# Altium integrated library TI Data Converters Analog to Digital Converter.IntLib: 2198 symbols (part 91 of 164)
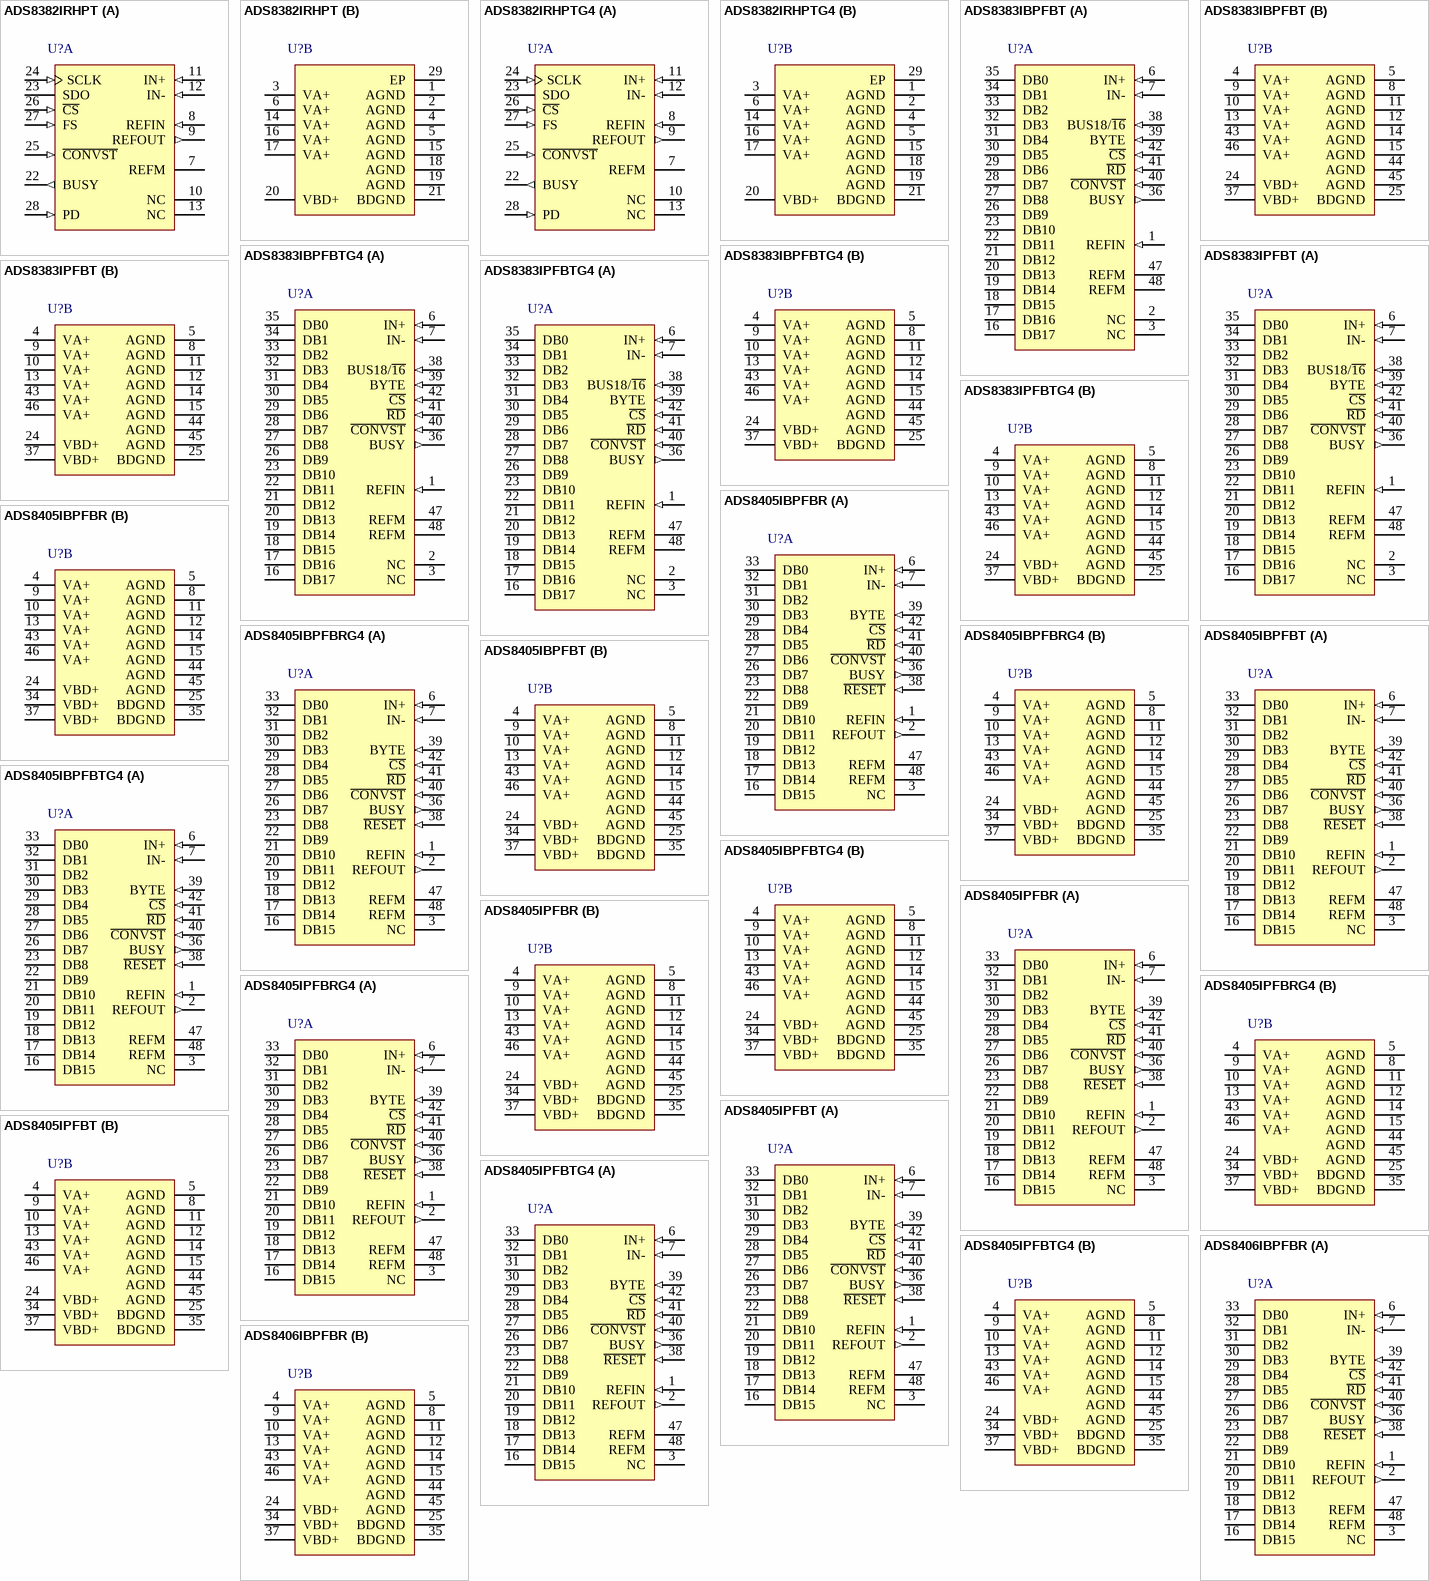
[diagram p216: symbols ADS8382IRHPT to ADS8406IBPFBR]

## ADS8405IBPFBR
designator U?
16-Bit 1.25 MSPS Unipolar Input Micro Power Sampling ADC, -40 to 85 degC, 48-pin QFP (PFB48), Green (RoHS & no Sb/Br); Manufacturer: Texas Instruments; PartNumber: ADS8405IBPFBR; # Input Channels: 1; Analog Voltage AV/DD(Max)(V): 5.25; Analog Voltage AV/DD(Min)(V): 4.75; Architecture: SAR; Digital Supply(Min)(V): 2.7; INL(Max)(+/-LSB): 2; Interface: Parallel CMOS; Resolution(Bits): 16; Sample Rate (max)(SPS): 1.25M; SFDR(dB): 90; SINAD(dB): 85; SNR(dB): 86; SubFamily: Precision ADC (<=10MSPS); DatasheetVersion: SLAS427; PackageVersion: 4073176/B, 10/1996; PackageReference: PFB48; PackageDescription: 48-Pin Plastic Flat Pack, Body 7 x 7 mm, Pitch 0.5 mm; Supplier 1: Digi-Key; Supplier Part Number 1: ADS1213U/1K-ND; Digital Supply(Max)(V): 5.25; Eco-Plan: Green (RoHS & no Sb/Br); Mounting Technology: Surface Mount; Code_JEDEC: MS-026; ComponentLink1Description: Manufacturer URL; ComponentLink1URL: http://www.ti.com/; ComponentLink2Description: Datasheet; ComponentLink2URL: http://www.ti.com/general/docs/lit/getliterature.tsp?genericPartNumber=ADS8405&fileType=pdf; ComponentLink3Description: Package Specification; ComponentLink3URL: http://www.ti.com/lit/ml/mtqf019a/mtqf019a.pdf
footprint TI-PFB48_N (QFP, 48-Leads, Body 7x7mm, Pitch 0.5mm, IPC Medium Density)
footprint TI-PFB48_L (QFP, 48-Leads, Body 7x7mm, Pitch 0.5mm, IPC High Density)
footprint TI-PFB48_M (QFP, 48-Leads, Body 7x7mm, Pitch 0.5mm, IPC Low Density)
part A pins: 1 REFIN (in) "Reference input.", 2 REFOUT (out) "Reference output. Add 1 uF capacitor between the REFOUT pin and REFM pin when internal reference is used.", 3 NC "No connection", 6 IN+ (in) "Noninverting input channel", 7 IN- (in) "Inverting input channel", 16 DB15 (hiz), 17 DB14 (hiz), 18 DB13 (hiz), 19 DB12 (hiz), 20 DB11 (hiz), 21 DB10 (hiz), 22 DB9 (hiz), 23 DB8 (hiz), 26 DB7 (hiz), 27 DB6 (hiz), 28 DB5 (hiz), 29 DB4 (hiz), 30 DB3 (hiz), 31 DB2 (hiz), 32 DB1 (hiz), 33 DB0 (hiz), 36 BUSY (out) "Status output. High when a conversion is in progress.", 38 ~{RESET} (in) "Current conversion is aborted and output latches are cleared (set to zeros) when this pin is asserted low. R\E\S\E\T\ works independantly of C\S\.", 39 BYTE (in) "Byte select input. Used for 8-bit bus reading. 0: No fold back 1: Low byte D[7:0] of the 16 most significant bits is folded back to high byte of the 16 most significant pins DB[15:8].", 40 ~{CONVST} (in) "Convert start. The falling edge of this input ends the acquisition period and starts the hold period.", 41 ~{RD} (in) "Synchronization pulse for the parallel output. When C\S\ is low, this serves as the output enable and puts the previous conversion result on the bus.", 42 ~{CS} (in) "Chip select. The falling edge of this input starts the acquisition period.", 47 REFM (power) "Reference ground.", 48 REFM (power) "Reference ground."
part B pins: 4 VA+ (power) "Analog power supplies, 5-V dc", 5 AGND (power) "Analog ground", 8 AGND (power) "Analog ground", 9 VA+ (power) "Analog power supplies, 5-V dc", 10 VA+ (power) "Analog power supplies, 5-V dc", 11 AGND (power) "Analog ground", 12 AGND (power) "Analog ground", 13 VA+ (power) "Analog power supplies, 5-V dc", 14 AGND (power) "Analog ground", 15 AGND (power) "Analog ground", 24 VBD+ (power) "Digital power supply for bus", 25 BDGND (power) "Digital ground for bus interface digital supply", 34 VBD+ (power) "Digital power supply for bus", 35 BDGND (power) "Digital ground for bus interface digital supply", 37 VBD+ (power) "Digital power supply for bus", 43 VA+ (power) "Analog power supplies, 5-V dc", 44 AGND (power) "Analog ground", 45 AGND (power) "Analog ground", 46 VA+ (power) "Analog power supplies, 5-V dc"

## ADS8405IBPFBRG4
designator U?
16-Bit 1.25 MSPS Unipolar Input Micro Power Sampling ADC, -40 to 85 degC, 48-pin QFP (PFB48), Green (RoHS & no Sb/Br); Manufacturer: Texas Instruments; PartNumber: ADS8405IBPFBRG4; # Input Channels: 1; Analog Voltage AV/DD(Max)(V): 5.25; Analog Voltage AV/DD(Min)(V): 4.75; Architecture: SAR; Digital Supply(Min)(V): 2.7; INL(Max)(+/-LSB): 2; Interface: Parallel CMOS; Resolution(Bits): 16; Sample Rate (max)(SPS): 1.25M; SFDR(dB): 90; SINAD(dB): 85; SNR(dB): 86; SubFamily: Precision ADC (<=10MSPS); DatasheetVersion: SLAS427; PackageVersion: 4073176/B, 10/1996; PackageReference: PFB48; PackageDescription: 48-Pin Plastic Flat Pack, Body 7 x 7 mm, Pitch 0.5 mm; Supplier 1: Digi-Key; Supplier Part Number 1: ADS1213U/1KG4-ND; Digital Supply(Max)(V): 5.25; Eco-Plan: Green (RoHS & no Sb/Br); Mounting Technology: Surface Mount; Code_JEDEC: MS-026; ComponentLink1Description: Manufacturer URL; ComponentLink1URL: http://www.ti.com/; ComponentLink2Description: Datasheet; ComponentLink2URL: http://www.ti.com/general/docs/lit/getliterature.tsp?genericPartNumber=ADS8405&fileType=pdf; ComponentLink3Description: Package Specification; ComponentLink3URL: http://www.ti.com/lit/ml/mtqf019a/mtqf019a.pdf
footprint TI-PFB48_N (QFP, 48-Leads, Body 7x7mm, Pitch 0.5mm, IPC Medium Density)
footprint TI-PFB48_L (QFP, 48-Leads, Body 7x7mm, Pitch 0.5mm, IPC High Density)
footprint TI-PFB48_M (QFP, 48-Leads, Body 7x7mm, Pitch 0.5mm, IPC Low Density)
part A pins: 1 REFIN (in) "Reference input.", 2 REFOUT (out) "Reference output. Add 1 uF capacitor between the REFOUT pin and REFM pin when internal reference is used.", 3 NC "No connection", 6 IN+ (in) "Noninverting input channel", 7 IN- (in) "Inverting input channel", 16 DB15 (hiz), 17 DB14 (hiz), 18 DB13 (hiz), 19 DB12 (hiz), 20 DB11 (hiz), 21 DB10 (hiz), 22 DB9 (hiz), 23 DB8 (hiz), 26 DB7 (hiz), 27 DB6 (hiz), 28 DB5 (hiz), 29 DB4 (hiz), 30 DB3 (hiz), 31 DB2 (hiz), 32 DB1 (hiz), 33 DB0 (hiz), 36 BUSY (out) "Status output. High when a conversion is in progress.", 38 ~{RESET} (in) "Current conversion is aborted and output latches are cleared (set to zeros) when this pin is asserted low. R\E\S\E\T\ works independantly of C\S\.", 39 BYTE (in) "Byte select input. Used for 8-bit bus reading. 0: No fold back 1: Low byte D[7:0] of the 16 most significant bits is folded back to high byte of the 16 most significant pins DB[15:8].", 40 ~{CONVST} (in) "Convert start. The falling edge of this input ends the acquisition period and starts the hold period.", 41 ~{RD} (in) "Synchronization pulse for the parallel output. When C\S\ is low, this serves as the output enable and puts the previous conversion result on the bus.", 42 ~{CS} (in) "Chip select. The falling edge of this input starts the acquisition period.", 47 REFM (power) "Reference ground.", 48 REFM (power) "Reference ground."
part B pins: 4 VA+ (power) "Analog power supplies, 5-V dc", 5 AGND (power) "Analog ground", 8 AGND (power) "Analog ground", 9 VA+ (power) "Analog power supplies, 5-V dc", 10 VA+ (power) "Analog power supplies, 5-V dc", 11 AGND (power) "Analog ground", 12 AGND (power) "Analog ground", 13 VA+ (power) "Analog power supplies, 5-V dc", 14 AGND (power) "Analog ground", 15 AGND (power) "Analog ground", 24 VBD+ (power) "Digital power supply for bus", 25 BDGND (power) "Digital ground for bus interface digital supply", 34 VBD+ (power) "Digital power supply for bus", 35 BDGND (power) "Digital ground for bus interface digital supply", 37 VBD+ (power) "Digital power supply for bus", 43 VA+ (power) "Analog power supplies, 5-V dc", 44 AGND (power) "Analog ground", 45 AGND (power) "Analog ground", 46 VA+ (power) "Analog power supplies, 5-V dc"

## ADS8405IBPFBT
designator U?
16-Bit 1.25 MSPS Unipolar Input Micro Power Sampling ADC, -40 to 85 degC, 48-pin QFP (PFB48), Green (RoHS & no Sb/Br); Manufacturer: Texas Instruments; PartNumber: ADS8405IBPFBT; # Input Channels: 1; Analog Voltage AV/DD(Max)(V): 5.25; Analog Voltage AV/DD(Min)(V): 4.75; Architecture: SAR; Digital Supply(Min)(V): 2.7; INL(Max)(+/-LSB): 2; Interface: Parallel CMOS; Resolution(Bits): 16; Sample Rate (max)(SPS): 1.25M; SFDR(dB): 90; SINAD(dB): 85; SNR(dB): 86; SubFamily: Precision ADC (<=10MSPS); DatasheetVersion: SLAS427; PackageVersion: 4073176/B, 10/1996; PackageReference: PFB48; PackageDescription: 48-Pin Plastic Flat Pack, Body 7 x 7 mm, Pitch 0.5 mm; Supplier 1: Digi-Key; Supplier Part Number 1: ADS1213UG4-ND; Digital Supply(Max)(V): 5.25; Eco-Plan: Green (RoHS & no Sb/Br); Mounting Technology: Surface Mount; Code_JEDEC: MS-026; ComponentLink1Description: Manufacturer URL; ComponentLink1URL: http://www.ti.com/; ComponentLink2Description: Datasheet; ComponentLink2URL: http://www.ti.com/general/docs/lit/getliterature.tsp?genericPartNumber=ADS8405&fileType=pdf; ComponentLink3Description: Package Specification; ComponentLink3URL: http://www.ti.com/lit/ml/mtqf019a/mtqf019a.pdf
footprint TI-PFB48_N (QFP, 48-Leads, Body 7x7mm, Pitch 0.5mm, IPC Medium Density)
footprint TI-PFB48_L (QFP, 48-Leads, Body 7x7mm, Pitch 0.5mm, IPC High Density)
footprint TI-PFB48_M (QFP, 48-Leads, Body 7x7mm, Pitch 0.5mm, IPC Low Density)
part A pins: 1 REFIN (in) "Reference input.", 2 REFOUT (out) "Reference output. Add 1 uF capacitor between the REFOUT pin and REFM pin when internal reference is used.", 3 NC "No connection", 6 IN+ (in) "Noninverting input channel", 7 IN- (in) "Inverting input channel", 16 DB15 (hiz), 17 DB14 (hiz), 18 DB13 (hiz), 19 DB12 (hiz), 20 DB11 (hiz), 21 DB10 (hiz), 22 DB9 (hiz), 23 DB8 (hiz), 26 DB7 (hiz), 27 DB6 (hiz), 28 DB5 (hiz), 29 DB4 (hiz), 30 DB3 (hiz), 31 DB2 (hiz), 32 DB1 (hiz), 33 DB0 (hiz), 36 BUSY (out) "Status output. High when a conversion is in progress.", 38 ~{RESET} (in) "Current conversion is aborted and output latches are cleared (set to zeros) when this pin is asserted low. R\E\S\E\T\ works independantly of C\S\.", 39 BYTE (in) "Byte select input. Used for 8-bit bus reading. 0: No fold back 1: Low byte D[7:0] of the 16 most significant bits is folded back to high byte of the 16 most significant pins DB[15:8].", 40 ~{CONVST} (in) "Convert start. The falling edge of this input ends the acquisition period and starts the hold period.", 41 ~{RD} (in) "Synchronization pulse for the parallel output. When C\S\ is low, this serves as the output enable and puts the previous conversion result on the bus.", 42 ~{CS} (in) "Chip select. The falling edge of this input starts the acquisition period.", 47 REFM (power) "Reference ground.", 48 REFM (power) "Reference ground."
part B pins: 4 VA+ (power) "Analog power supplies, 5-V dc", 5 AGND (power) "Analog ground", 8 AGND (power) "Analog ground", 9 VA+ (power) "Analog power supplies, 5-V dc", 10 VA+ (power) "Analog power supplies, 5-V dc", 11 AGND (power) "Analog ground", 12 AGND (power) "Analog ground", 13 VA+ (power) "Analog power supplies, 5-V dc", 14 AGND (power) "Analog ground", 15 AGND (power) "Analog ground", 24 VBD+ (power) "Digital power supply for bus", 25 BDGND (power) "Digital ground for bus interface digital supply", 34 VBD+ (power) "Digital power supply for bus", 35 BDGND (power) "Digital ground for bus interface digital supply", 37 VBD+ (power) "Digital power supply for bus", 43 VA+ (power) "Analog power supplies, 5-V dc", 44 AGND (power) "Analog ground", 45 AGND (power) "Analog ground", 46 VA+ (power) "Analog power supplies, 5-V dc"

## ADS8405IBPFBTG4
designator U?
16-Bit 1.25 MSPS Unipolar Input Micro Power Sampling ADC, -40 to 85 degC, 48-pin QFP (PFB48), Green (RoHS & no Sb/Br); Manufacturer: Texas Instruments; PartNumber: ADS8405IBPFBTG4; # Input Channels: 1; Analog Voltage AV/DD(Max)(V): 5.25; Analog Voltage AV/DD(Min)(V): 4.75; Architecture: SAR; Digital Supply(Min)(V): 2.7; INL(Max)(+/-LSB): 2; Interface: Parallel CMOS; Resolution(Bits): 16; Sample Rate (max)(SPS): 1.25M; SFDR(dB): 90; SINAD(dB): 85; SNR(dB): 86; SubFamily: Precision ADC (<=10MSPS); DatasheetVersion: SLAS427; PackageVersion: 4073176/B, 10/1996; PackageReference: PFB48; PackageDescription: 48-Pin Plastic Flat Pack, Body 7 x 7 mm, Pitch 0.5 mm; Supplier 1: Digi-Key; Supplier Part Number 1: ADS1212P-ND; Digital Supply(Max)(V): 5.25; Eco-Plan: Green (RoHS & no Sb/Br); Mounting Technology: Surface Mount; Code_JEDEC: MS-026; ComponentLink1Description: Manufacturer URL; ComponentLink1URL: http://www.ti.com/; ComponentLink2Description: Datasheet; ComponentLink2URL: http://www.ti.com/general/docs/lit/getliterature.tsp?genericPartNumber=ADS8405&fileType=pdf; ComponentLink3Description: Package Specification; ComponentLink3URL: http://www.ti.com/lit/ml/mtqf019a/mtqf019a.pdf
footprint TI-PFB48_N (QFP, 48-Leads, Body 7x7mm, Pitch 0.5mm, IPC Medium Density)
footprint TI-PFB48_L (QFP, 48-Leads, Body 7x7mm, Pitch 0.5mm, IPC High Density)
footprint TI-PFB48_M (QFP, 48-Leads, Body 7x7mm, Pitch 0.5mm, IPC Low Density)
part A pins: 1 REFIN (in) "Reference input.", 2 REFOUT (out) "Reference output. Add 1 uF capacitor between the REFOUT pin and REFM pin when internal reference is used.", 3 NC "No connection", 6 IN+ (in) "Noninverting input channel", 7 IN- (in) "Inverting input channel", 16 DB15 (hiz), 17 DB14 (hiz), 18 DB13 (hiz), 19 DB12 (hiz), 20 DB11 (hiz), 21 DB10 (hiz), 22 DB9 (hiz), 23 DB8 (hiz), 26 DB7 (hiz), 27 DB6 (hiz), 28 DB5 (hiz), 29 DB4 (hiz), 30 DB3 (hiz), 31 DB2 (hiz), 32 DB1 (hiz), 33 DB0 (hiz), 36 BUSY (out) "Status output. High when a conversion is in progress.", 38 ~{RESET} (in) "Current conversion is aborted and output latches are cleared (set to zeros) when this pin is asserted low. R\E\S\E\T\ works independantly of C\S\.", 39 BYTE (in) "Byte select input. Used for 8-bit bus reading. 0: No fold back 1: Low byte D[7:0] of the 16 most significant bits is folded back to high byte of the 16 most significant pins DB[15:8].", 40 ~{CONVST} (in) "Convert start. The falling edge of this input ends the acquisition period and starts the hold period.", 41 ~{RD} (in) "Synchronization pulse for the parallel output. When C\S\ is low, this serves as the output enable and puts the previous conversion result on the bus.", 42 ~{CS} (in) "Chip select. The falling edge of this input starts the acquisition period.", 47 REFM (power) "Reference ground.", 48 REFM (power) "Reference ground."
part B pins: 4 VA+ (power) "Analog power supplies, 5-V dc", 5 AGND (power) "Analog ground", 8 AGND (power) "Analog ground", 9 VA+ (power) "Analog power supplies, 5-V dc", 10 VA+ (power) "Analog power supplies, 5-V dc", 11 AGND (power) "Analog ground", 12 AGND (power) "Analog ground", 13 VA+ (power) "Analog power supplies, 5-V dc", 14 AGND (power) "Analog ground", 15 AGND (power) "Analog ground", 24 VBD+ (power) "Digital power supply for bus", 25 BDGND (power) "Digital ground for bus interface digital supply", 34 VBD+ (power) "Digital power supply for bus", 35 BDGND (power) "Digital ground for bus interface digital supply", 37 VBD+ (power) "Digital power supply for bus", 43 VA+ (power) "Analog power supplies, 5-V dc", 44 AGND (power) "Analog ground", 45 AGND (power) "Analog ground", 46 VA+ (power) "Analog power supplies, 5-V dc"

## ADS8405IPFBR
designator U?
16-Bit 1.25 MSPS Unipolar Input Micro Power Sampling ADC, -40 to 85 degC, 48-pin QFP (PFB48), Green (RoHS & no Sb/Br); Manufacturer: Texas Instruments; PartNumber: ADS8405IPFBR; # Input Channels: 1; Analog Voltage AV/DD(Max)(V): 5.25; Analog Voltage AV/DD(Min)(V): 4.75; Architecture: SAR; Digital Supply(Min)(V): 2.7; INL(Max)(+/-LSB): 4; Interface: Parallel CMOS; Resolution(Bits): 16; Sample Rate (max)(SPS): 1.25M; SFDR(dB): 90; SINAD(dB): 85; SNR(dB): 86; SubFamily: Precision ADC (<=10MSPS); DatasheetVersion: SLAS427; PackageVersion: 4073176/B, 10/1996; PackageReference: PFB48; PackageDescription: 48-Pin Plastic Flat Pack, Body 7 x 7 mm, Pitch 0.5 mm; Supplier 1: Digi-Key; Supplier Part Number 1: ADS1212PG4-ND; Digital Supply(Max)(V): 5.25; Eco-Plan: Green (RoHS & no Sb/Br); Mounting Technology: Surface Mount; Code_JEDEC: MS-026; ComponentLink1Description: Manufacturer URL; ComponentLink1URL: http://www.ti.com/; ComponentLink2Description: Datasheet; ComponentLink2URL: http://www.ti.com/general/docs/lit/getliterature.tsp?genericPartNumber=ADS8405&fileType=pdf; ComponentLink3Description: Package Specification; ComponentLink3URL: http://www.ti.com/lit/ml/mtqf019a/mtqf019a.pdf
footprint TI-PFB48_N (QFP, 48-Leads, Body 7x7mm, Pitch 0.5mm, IPC Medium Density)
footprint TI-PFB48_L (QFP, 48-Leads, Body 7x7mm, Pitch 0.5mm, IPC High Density)
footprint TI-PFB48_M (QFP, 48-Leads, Body 7x7mm, Pitch 0.5mm, IPC Low Density)
part A pins: 1 REFIN (in) "Reference input.", 2 REFOUT (out) "Reference output. Add 1 uF capacitor between the REFOUT pin and REFM pin when internal reference is used.", 3 NC "No connection", 6 IN+ (in) "Noninverting input channel", 7 IN- (in) "Inverting input channel", 16 DB15 (hiz), 17 DB14 (hiz), 18 DB13 (hiz), 19 DB12 (hiz), 20 DB11 (hiz), 21 DB10 (hiz), 22 DB9 (hiz), 23 DB8 (hiz), 26 DB7 (hiz), 27 DB6 (hiz), 28 DB5 (hiz), 29 DB4 (hiz), 30 DB3 (hiz), 31 DB2 (hiz), 32 DB1 (hiz), 33 DB0 (hiz), 36 BUSY (out) "Status output. High when a conversion is in progress.", 38 ~{RESET} (in) "Current conversion is aborted and output latches are cleared (set to zeros) when this pin is asserted low. R\E\S\E\T\ works independantly of C\S\.", 39 BYTE (in) "Byte select input. Used for 8-bit bus reading. 0: No fold back 1: Low byte D[7:0] of the 16 most significant bits is folded back to high byte of the 16 most significant pins DB[15:8].", 40 ~{CONVST} (in) "Convert start. The falling edge of this input ends the acquisition period and starts the hold period.", 41 ~{RD} (in) "Synchronization pulse for the parallel output. When C\S\ is low, this serves as the output enable and puts the previous conversion result on the bus.", 42 ~{CS} (in) "Chip select. The falling edge of this input starts the acquisition period.", 47 REFM (power) "Reference ground.", 48 REFM (power) "Reference ground."
part B pins: 4 VA+ (power) "Analog power supplies, 5-V dc", 5 AGND (power) "Analog ground", 8 AGND (power) "Analog ground", 9 VA+ (power) "Analog power supplies, 5-V dc", 10 VA+ (power) "Analog power supplies, 5-V dc", 11 AGND (power) "Analog ground", 12 AGND (power) "Analog ground", 13 VA+ (power) "Analog power supplies, 5-V dc", 14 AGND (power) "Analog ground", 15 AGND (power) "Analog ground", 24 VBD+ (power) "Digital power supply for bus", 25 BDGND (power) "Digital ground for bus interface digital supply", 34 VBD+ (power) "Digital power supply for bus", 35 BDGND (power) "Digital ground for bus interface digital supply", 37 VBD+ (power) "Digital power supply for bus", 43 VA+ (power) "Analog power supplies, 5-V dc", 44 AGND (power) "Analog ground", 45 AGND (power) "Analog ground", 46 VA+ (power) "Analog power supplies, 5-V dc"

## ADS8405IPFBRG4
designator U?
16-Bit 1.25 MSPS Unipolar Input Micro Power Sampling ADC, -40 to 85 degC, 48-pin QFP (PFB48), Green (RoHS & no Sb/Br); Manufacturer: Texas Instruments; PartNumber: ADS8405IPFBRG4; # Input Channels: 1; Analog Voltage AV/DD(Max)(V): 5.25; Analog Voltage AV/DD(Min)(V): 4.75; Architecture: SAR; Digital Supply(Min)(V): 2.7; INL(Max)(+/-LSB): 4; Interface: Parallel CMOS; Resolution(Bits): 16; Sample Rate (max)(SPS): 1.25M; SFDR(dB): 90; SINAD(dB): 85; SNR(dB): 86; SubFamily: Precision ADC (<=10MSPS); DatasheetVersion: SLAS427; PackageVersion: 4073176/B, 10/1996; PackageReference: PFB48; PackageDescription: 48-Pin Plastic Flat Pack, Body 7 x 7 mm, Pitch 0.5 mm; Supplier 1: Digi-Key; Supplier Part Number 1: ADS1212U-ND; Digital Supply(Max)(V): 5.25; Eco-Plan: Green (RoHS & no Sb/Br); Mounting Technology: Surface Mount; Code_JEDEC: MS-026; ComponentLink1Description: Manufacturer URL; ComponentLink1URL: http://www.ti.com/; ComponentLink2Description: Datasheet; ComponentLink2URL: http://www.ti.com/general/docs/lit/getliterature.tsp?genericPartNumber=ADS8405&fileType=pdf; ComponentLink3Description: Package Specification; ComponentLink3URL: http://www.ti.com/lit/ml/mtqf019a/mtqf019a.pdf
footprint TI-PFB48_N (QFP, 48-Leads, Body 7x7mm, Pitch 0.5mm, IPC Medium Density)
footprint TI-PFB48_L (QFP, 48-Leads, Body 7x7mm, Pitch 0.5mm, IPC High Density)
footprint TI-PFB48_M (QFP, 48-Leads, Body 7x7mm, Pitch 0.5mm, IPC Low Density)
part A pins: 1 REFIN (in) "Reference input.", 2 REFOUT (out) "Reference output. Add 1 uF capacitor between the REFOUT pin and REFM pin when internal reference is used.", 3 NC "No connection", 6 IN+ (in) "Noninverting input channel", 7 IN- (in) "Inverting input channel", 16 DB15 (hiz), 17 DB14 (hiz), 18 DB13 (hiz), 19 DB12 (hiz), 20 DB11 (hiz), 21 DB10 (hiz), 22 DB9 (hiz), 23 DB8 (hiz), 26 DB7 (hiz), 27 DB6 (hiz), 28 DB5 (hiz), 29 DB4 (hiz), 30 DB3 (hiz), 31 DB2 (hiz), 32 DB1 (hiz), 33 DB0 (hiz), 36 BUSY (out) "Status output. High when a conversion is in progress.", 38 ~{RESET} (in) "Current conversion is aborted and output latches are cleared (set to zeros) when this pin is asserted low. R\E\S\E\T\ works independantly of C\S\.", 39 BYTE (in) "Byte select input. Used for 8-bit bus reading. 0: No fold back 1: Low byte D[7:0] of the 16 most significant bits is folded back to high byte of the 16 most significant pins DB[15:8].", 40 ~{CONVST} (in) "Convert start. The falling edge of this input ends the acquisition period and starts the hold period.", 41 ~{RD} (in) "Synchronization pulse for the parallel output. When C\S\ is low, this serves as the output enable and puts the previous conversion result on the bus.", 42 ~{CS} (in) "Chip select. The falling edge of this input starts the acquisition period.", 47 REFM (power) "Reference ground.", 48 REFM (power) "Reference ground."
part B pins: 4 VA+ (power) "Analog power supplies, 5-V dc", 5 AGND (power) "Analog ground", 8 AGND (power) "Analog ground", 9 VA+ (power) "Analog power supplies, 5-V dc", 10 VA+ (power) "Analog power supplies, 5-V dc", 11 AGND (power) "Analog ground", 12 AGND (power) "Analog ground", 13 VA+ (power) "Analog power supplies, 5-V dc", 14 AGND (power) "Analog ground", 15 AGND (power) "Analog ground", 24 VBD+ (power) "Digital power supply for bus", 25 BDGND (power) "Digital ground for bus interface digital supply", 34 VBD+ (power) "Digital power supply for bus", 35 BDGND (power) "Digital ground for bus interface digital supply", 37 VBD+ (power) "Digital power supply for bus", 43 VA+ (power) "Analog power supplies, 5-V dc", 44 AGND (power) "Analog ground", 45 AGND (power) "Analog ground", 46 VA+ (power) "Analog power supplies, 5-V dc"

## ADS8405IPFBT
designator U?
16-Bit 1.25 MSPS Unipolar Input Micro Power Sampling ADC, -40 to 85 degC, 48-pin QFP (PFB48), Green (RoHS & no Sb/Br); Manufacturer: Texas Instruments; PartNumber: ADS8405IPFBT; # Input Channels: 1; Analog Voltage AV/DD(Max)(V): 5.25; Analog Voltage AV/DD(Min)(V): 4.75; Architecture: SAR; Digital Supply(Min)(V): 2.7; INL(Max)(+/-LSB): 4; Interface: Parallel CMOS; Resolution(Bits): 16; Sample Rate (max)(SPS): 1.25M; SFDR(dB): 90; SINAD(dB): 85; SNR(dB): 86; SubFamily: Precision ADC (<=10MSPS); DatasheetVersion: SLAS427; PackageVersion: 4073176/B, 10/1996; PackageReference: PFB48; PackageDescription: 48-Pin Plastic Flat Pack, Body 7 x 7 mm, Pitch 0.5 mm; Supplier 1: Digi-Key; Supplier Part Number 1: ADS1212U/1K-ND; Digital Supply(Max)(V): 5.25; Eco-Plan: Green (RoHS & no Sb/Br); Mounting Technology: Surface Mount; Code_JEDEC: MS-026; ComponentLink1Description: Manufacturer URL; ComponentLink1URL: http://www.ti.com/; ComponentLink2Description: Datasheet; ComponentLink2URL: http://www.ti.com/general/docs/lit/getliterature.tsp?genericPartNumber=ADS8405&fileType=pdf; ComponentLink3Description: Package Specification; ComponentLink3URL: http://www.ti.com/lit/ml/mtqf019a/mtqf019a.pdf
footprint TI-PFB48_N (QFP, 48-Leads, Body 7x7mm, Pitch 0.5mm, IPC Medium Density)
footprint TI-PFB48_L (QFP, 48-Leads, Body 7x7mm, Pitch 0.5mm, IPC High Density)
footprint TI-PFB48_M (QFP, 48-Leads, Body 7x7mm, Pitch 0.5mm, IPC Low Density)
part A pins: 1 REFIN (in) "Reference input.", 2 REFOUT (out) "Reference output. Add 1 uF capacitor between the REFOUT pin and REFM pin when internal reference is used.", 3 NC "No connection", 6 IN+ (in) "Noninverting input channel", 7 IN- (in) "Inverting input channel", 16 DB15 (hiz), 17 DB14 (hiz), 18 DB13 (hiz), 19 DB12 (hiz), 20 DB11 (hiz), 21 DB10 (hiz), 22 DB9 (hiz), 23 DB8 (hiz), 26 DB7 (hiz), 27 DB6 (hiz), 28 DB5 (hiz), 29 DB4 (hiz), 30 DB3 (hiz), 31 DB2 (hiz), 32 DB1 (hiz), 33 DB0 (hiz), 36 BUSY (out) "Status output. High when a conversion is in progress.", 38 ~{RESET} (in) "Current conversion is aborted and output latches are cleared (set to zeros) when this pin is asserted low. R\E\S\E\T\ works independantly of C\S\.", 39 BYTE (in) "Byte select input. Used for 8-bit bus reading. 0: No fold back 1: Low byte D[7:0] of the 16 most significant bits is folded back to high byte of the 16 most significant pins DB[15:8].", 40 ~{CONVST} (in) "Convert start. The falling edge of this input ends the acquisition period and starts the hold period.", 41 ~{RD} (in) "Synchronization pulse for the parallel output. When C\S\ is low, this serves as the output enable and puts the previous conversion result on the bus.", 42 ~{CS} (in) "Chip select. The falling edge of this input starts the acquisition period.", 47 REFM (power) "Reference ground.", 48 REFM (power) "Reference ground."
part B pins: 4 VA+ (power) "Analog power supplies, 5-V dc", 5 AGND (power) "Analog ground", 8 AGND (power) "Analog ground", 9 VA+ (power) "Analog power supplies, 5-V dc", 10 VA+ (power) "Analog power supplies, 5-V dc", 11 AGND (power) "Analog ground", 12 AGND (power) "Analog ground", 13 VA+ (power) "Analog power supplies, 5-V dc", 14 AGND (power) "Analog ground", 15 AGND (power) "Analog ground", 24 VBD+ (power) "Digital power supply for bus", 25 BDGND (power) "Digital ground for bus interface digital supply", 34 VBD+ (power) "Digital power supply for bus", 35 BDGND (power) "Digital ground for bus interface digital supply", 37 VBD+ (power) "Digital power supply for bus", 43 VA+ (power) "Analog power supplies, 5-V dc", 44 AGND (power) "Analog ground", 45 AGND (power) "Analog ground", 46 VA+ (power) "Analog power supplies, 5-V dc"

## ADS8405IPFBTG4
designator U?
16-Bit 1.25 MSPS Unipolar Input Micro Power Sampling ADC, -40 to 85 degC, 48-pin QFP (PFB48), Green (RoHS & no Sb/Br); Manufacturer: Texas Instruments; PartNumber: ADS8405IPFBTG4; # Input Channels: 1; Analog Voltage AV/DD(Max)(V): 5.25; Analog Voltage AV/DD(Min)(V): 4.75; Architecture: SAR; Digital Supply(Min)(V): 2.7; INL(Max)(+/-LSB): 4; Interface: Parallel CMOS; Resolution(Bits): 16; Sample Rate (max)(SPS): 1.25M; SFDR(dB): 90; SINAD(dB): 85; SNR(dB): 86; SubFamily: Precision ADC (<=10MSPS); DatasheetVersion: SLAS427; PackageVersion: 4073176/B, 10/1996; PackageReference: PFB48; PackageDescription: 48-Pin Plastic Flat Pack, Body 7 x 7 mm, Pitch 0.5 mm; Supplier 1: Digi-Key; Supplier Part Number 1: ADS1212U/1KG4-ND; Digital Supply(Max)(V): 5.25; Eco-Plan: Green (RoHS & no Sb/Br); Mounting Technology: Surface Mount; Code_JEDEC: MS-026; ComponentLink1Description: Manufacturer URL; ComponentLink1URL: http://www.ti.com/; ComponentLink2Description: Datasheet; ComponentLink2URL: http://www.ti.com/general/docs/lit/getliterature.tsp?genericPartNumber=ADS8405&fileType=pdf; ComponentLink3Description: Package Specification; ComponentLink3URL: http://www.ti.com/lit/ml/mtqf019a/mtqf019a.pdf
footprint TI-PFB48_N (QFP, 48-Leads, Body 7x7mm, Pitch 0.5mm, IPC Medium Density)
footprint TI-PFB48_L (QFP, 48-Leads, Body 7x7mm, Pitch 0.5mm, IPC High Density)
footprint TI-PFB48_M (QFP, 48-Leads, Body 7x7mm, Pitch 0.5mm, IPC Low Density)
part A pins: 1 REFIN (in) "Reference input.", 2 REFOUT (out) "Reference output. Add 1 uF capacitor between the REFOUT pin and REFM pin when internal reference is used.", 3 NC "No connection", 6 IN+ (in) "Noninverting input channel", 7 IN- (in) "Inverting input channel", 16 DB15 (hiz), 17 DB14 (hiz), 18 DB13 (hiz), 19 DB12 (hiz), 20 DB11 (hiz), 21 DB10 (hiz), 22 DB9 (hiz), 23 DB8 (hiz), 26 DB7 (hiz), 27 DB6 (hiz), 28 DB5 (hiz), 29 DB4 (hiz), 30 DB3 (hiz), 31 DB2 (hiz), 32 DB1 (hiz), 33 DB0 (hiz), 36 BUSY (out) "Status output. High when a conversion is in progress.", 38 ~{RESET} (in) "Current conversion is aborted and output latches are cleared (set to zeros) when this pin is asserted low. R\E\S\E\T\ works independantly of C\S\.", 39 BYTE (in) "Byte select input. Used for 8-bit bus reading. 0: No fold back 1: Low byte D[7:0] of the 16 most significant bits is folded back to high byte of the 16 most significant pins DB[15:8].", 40 ~{CONVST} (in) "Convert start. The falling edge of this input ends the acquisition period and starts the hold period.", 41 ~{RD} (in) "Synchronization pulse for the parallel output. When C\S\ is low, this serves as the output enable and puts the previous conversion result on the bus.", 42 ~{CS} (in) "Chip select. The falling edge of this input starts the acquisition period.", 47 REFM (power) "Reference ground.", 48 REFM (power) "Reference ground."
part B pins: 4 VA+ (power) "Analog power supplies, 5-V dc", 5 AGND (power) "Analog ground", 8 AGND (power) "Analog ground", 9 VA+ (power) "Analog power supplies, 5-V dc", 10 VA+ (power) "Analog power supplies, 5-V dc", 11 AGND (power) "Analog ground", 12 AGND (power) "Analog ground", 13 VA+ (power) "Analog power supplies, 5-V dc", 14 AGND (power) "Analog ground", 15 AGND (power) "Analog ground", 24 VBD+ (power) "Digital power supply for bus", 25 BDGND (power) "Digital ground for bus interface digital supply", 34 VBD+ (power) "Digital power supply for bus", 35 BDGND (power) "Digital ground for bus interface digital supply", 37 VBD+ (power) "Digital power supply for bus", 43 VA+ (power) "Analog power supplies, 5-V dc", 44 AGND (power) "Analog ground", 45 AGND (power) "Analog ground", 46 VA+ (power) "Analog power supplies, 5-V dc"

## ADS8406IBPFBR
designator U?
16-Bit 1.25 MSPS, Pseudo Bipolar, Fully Differential Input Micro Power Sampling ADC, -40 to 85 degC, 48-pin QFP (PFB48), Green (RoHS & no Sb/Br); Manufacturer: Texas Instruments; PartNumber: ADS8406IBPFBR; # Input Channels: 1; Analog Voltage AV/DD(Max)(V): 5.25; Analog Voltage AV/DD(Min)(V): 4.75; Architecture: SAR; Digital Supply(Min)(V): 2.7; INL(Max)(+/-LSB): 2; Interface: Parallel CMOS; Resolution(Bits): 16; Sample Rate (max)(SPS): 1.25M; SFDR(dB): 95; SINAD(dB): 88; SNR(dB): 90; SubFamily: Precision ADC (<=10MSPS); DatasheetVersion: SLAS426A; PackageVersion: 4073176/B, 10/1996; PackageReference: PFB48; PackageDescription: 48-Pin Plastic Flat Pack, Body 7 x 7 mm, Pitch 0.5 mm; Supplier 1: Digi-Key; Supplier Part Number 1: ADS1212UG4-ND; Digital Supply(Max)(V): 5.25; Eco-Plan: Green (RoHS & no Sb/Br); Mounting Technology: Surface Mount; Code_JEDEC: MS-026; ComponentLink1Description: Manufacturer URL; ComponentLink1URL: http://www.ti.com/; ComponentLink2Description: Datasheet; ComponentLink2URL: http://www.ti.com/general/docs/lit/getliterature.tsp?genericPartNumber=ADS8406&fileType=pdf; ComponentLink3Description: Package Specification; ComponentLink3URL: http://www.ti.com/lit/ml/mtqf019a/mtqf019a.pdf
footprint TI-PFB48_N (QFP, 48-Leads, Body 7x7mm, Pitch 0.5mm, IPC Medium Density)
footprint TI-PFB48_L (QFP, 48-Leads, Body 7x7mm, Pitch 0.5mm, IPC High Density)
footprint TI-PFB48_M (QFP, 48-Leads, Body 7x7mm, Pitch 0.5mm, IPC Low Density)
part A pins: 1 REFIN (in) "Reference input.", 2 REFOUT (out) "Reference output. Add 1 uF capacitor between the REFOUT pin and REFM pin when internal reference is used.", 3 NC "No connection", 6 IN+ (in) "Noninverting input channel", 7 IN- (in) "Inverting input channel", 16 DB15 (hiz), 17 DB14 (hiz), 18 DB13 (hiz), 19 DB12 (hiz), 20 DB11 (hiz), 21 DB10 (hiz), 22 DB9 (hiz), 23 DB8 (hiz), 26 DB7 (hiz), 27 DB6 (hiz), 28 DB5 (hiz), 29 DB4 (hiz), 30 DB3 (hiz), 31 DB2 (hiz), 32 DB1 (hiz), 33 DB0 (hiz), 36 BUSY (out) "Status output. High when a conversion is in progress.", 38 ~{RESET} (in) "Current conversion is aborted and output latches are cleared (set to zeros) when this pin is asserted low. R\E\S\E\T\ works independantly of C\S\.", 39 BYTE (in) "Byte select input. Used for 8-bit bus reading. 0: No fold back 1: Low byte D[7:0] of the 16 most significant bits is folded back to high byte of the 16 most significant pins DB[15:8].", 40 ~{CONVST} (in) "Convert start. The falling edge of this input ends the acquisition period and starts the hold period.", 41 ~{RD} (in) "Synchronization pulse for the parallel output. When C\S\ is low, this serves as the output enable and puts the previous conversion result on the bus.", 42 ~{CS} (in) "Chip select. The falling edge of this input starts the acquisition period.", 47 REFM (power) "Reference ground.", 48 REFM (power) "Reference ground."
part B pins: 4 VA+ (power) "Analog power supplies, 5-V dc", 5 AGND (power) "Analog ground", 8 AGND (power) "Analog ground", 9 VA+ (power) "Analog power supplies, 5-V dc", 10 VA+ (power) "Analog power supplies, 5-V dc", 11 AGND (power) "Analog ground", 12 AGND (power) "Analog ground", 13 VA+ (power) "Analog power supplies, 5-V dc", 14 AGND (power) "Analog ground", 15 AGND (power) "Analog ground", 24 VBD+ (power) "Digital power supply for bus", 25 BDGND (power) "Digital ground for bus interface digital supply", 34 VBD+ (power) "Digital power supply for bus", 35 BDGND (power) "Digital ground for bus interface digital supply", 37 VBD+ (power) "Digital power supply for bus", 43 VA+ (power) "Analog power supplies, 5-V dc", 44 AGND (power) "Analog ground", 45 AGND (power) "Analog ground", 46 VA+ (power) "Analog power supplies, 5-V dc"

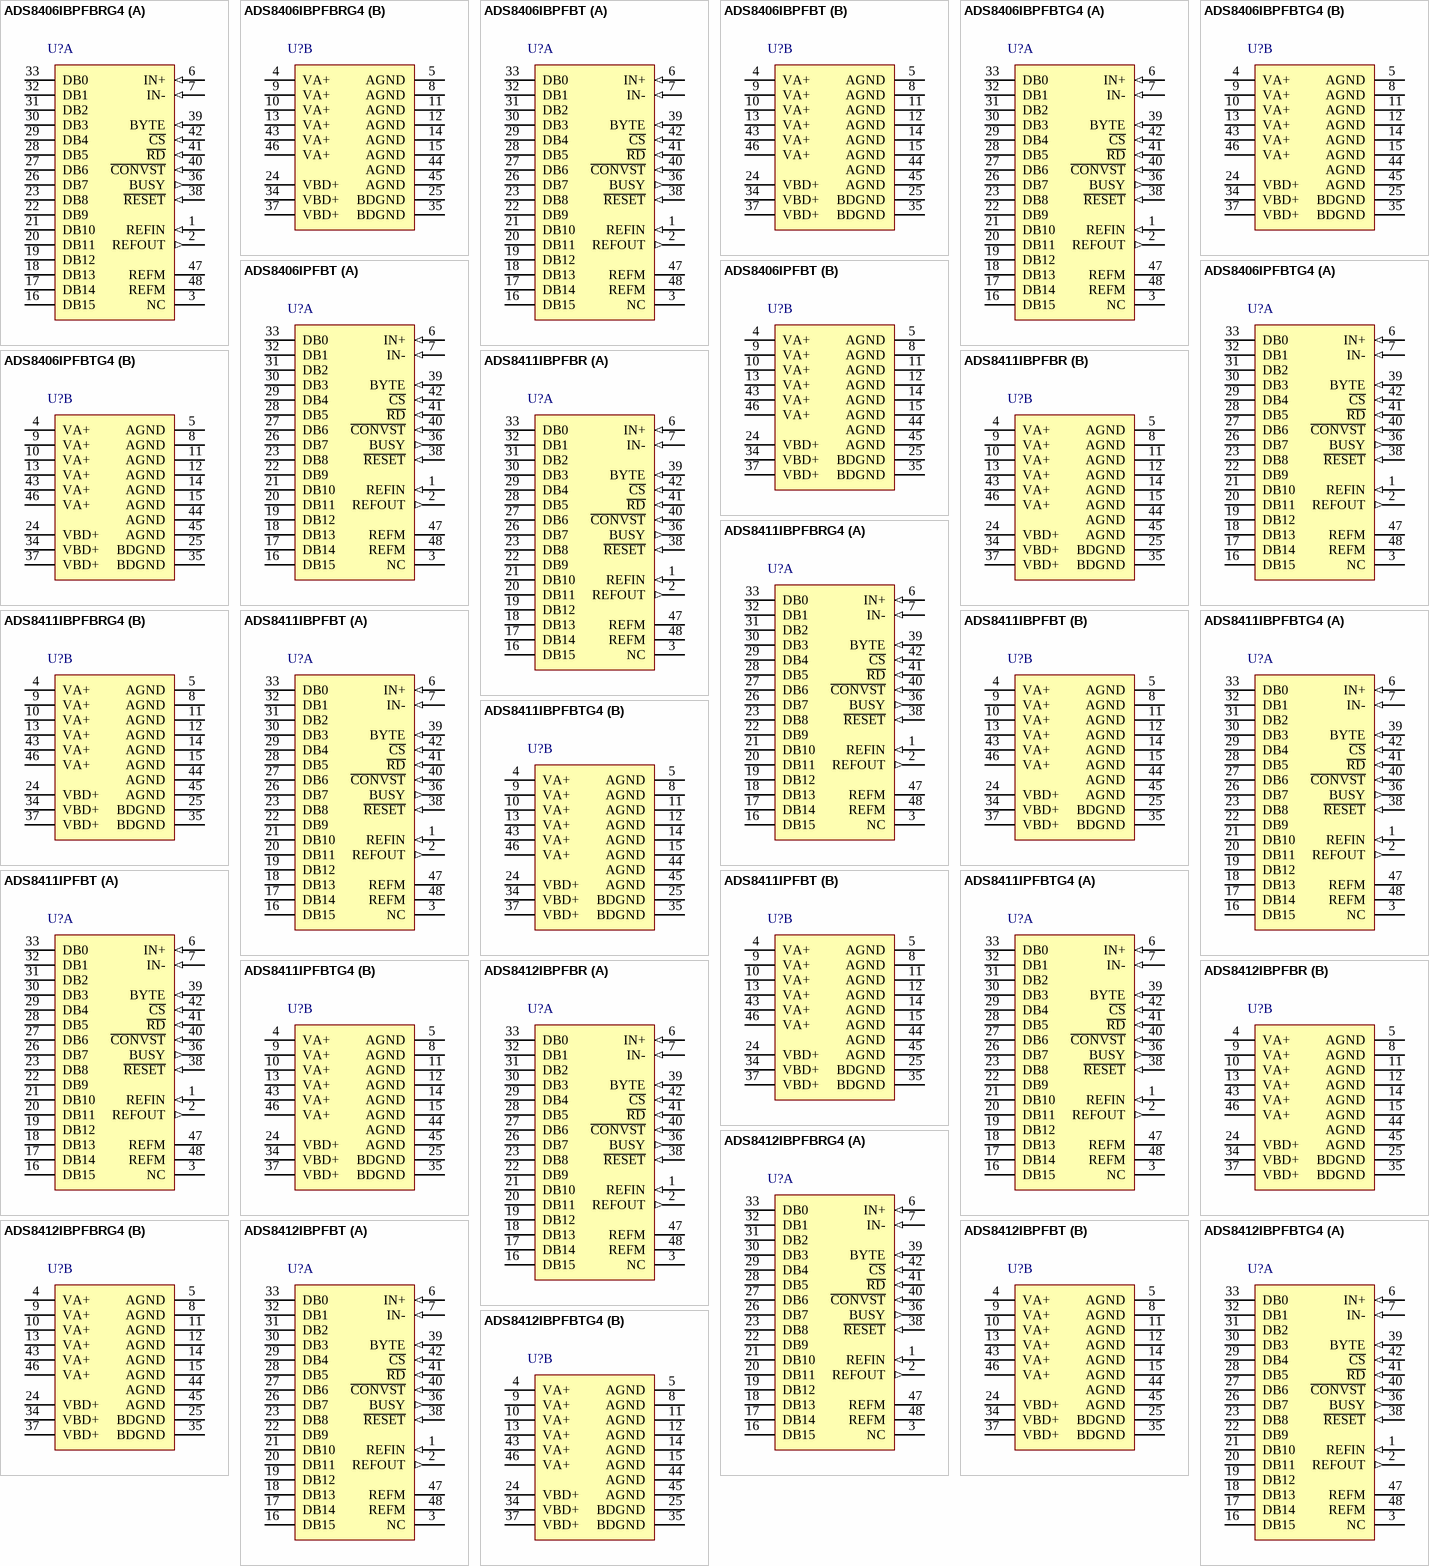
[diagram p81: symbols ADS8406IBPFBRG4 to ADS8412IBPFBTG4]

## ADS8406IBPFBRG4
designator U?
16-Bit 1.25 MSPS, Pseudo Bipolar, Fully Differential Input Micro Power Sampling ADC, -40 to 85 degC, 48-pin QFP (PFB48), Green (RoHS & no Sb/Br); Manufacturer: Texas Instruments; PartNumber: ADS8406IBPFBRG4; # Input Channels: 1; Analog Voltage AV/DD(Max)(V): 5.25; Analog Voltage AV/DD(Min)(V): 4.75; Architecture: SAR; Digital Supply(Min)(V): 2.7; INL(Max)(+/-LSB): 2; Interface: Parallel CMOS; Resolution(Bits): 16; Sample Rate (max)(SPS): 1.25M; SFDR(dB): 95; SINAD(dB): 88; SNR(dB): 90; SubFamily: Precision ADC (<=10MSPS); DatasheetVersion: SLAS426A; PackageVersion: 4073176/B, 10/1996; PackageReference: PFB48; PackageDescription: 48-Pin Plastic Flat Pack, Body 7 x 7 mm, Pitch 0.5 mm; Supplier 1: Digi-Key; Supplier Part Number 1: ADS7816ETR-ND; Digital Supply(Max)(V): 5.25; Eco-Plan: Green (RoHS & no Sb/Br); Mounting Technology: Surface Mount; Code_JEDEC: MS-026; ComponentLink1Description: Manufacturer URL; ComponentLink1URL: http://www.ti.com/; ComponentLink2Description: Datasheet; ComponentLink2URL: http://www.ti.com/general/docs/lit/getliterature.tsp?genericPartNumber=ADS8406&fileType=pdf; ComponentLink3Description: Package Specification; ComponentLink3URL: http://www.ti.com/lit/ml/mtqf019a/mtqf019a.pdf
footprint TI-PFB48_N (QFP, 48-Leads, Body 7x7mm, Pitch 0.5mm, IPC Medium Density)
footprint TI-PFB48_L (QFP, 48-Leads, Body 7x7mm, Pitch 0.5mm, IPC High Density)
footprint TI-PFB48_M (QFP, 48-Leads, Body 7x7mm, Pitch 0.5mm, IPC Low Density)
part A pins: 1 REFIN (in) "Reference input.", 2 REFOUT (out) "Reference output. Add 1 uF capacitor between the REFOUT pin and REFM pin when internal reference is used.", 3 NC "No connection", 6 IN+ (in) "Noninverting input channel", 7 IN- (in) "Inverting input channel", 16 DB15 (hiz), 17 DB14 (hiz), 18 DB13 (hiz), 19 DB12 (hiz), 20 DB11 (hiz), 21 DB10 (hiz), 22 DB9 (hiz), 23 DB8 (hiz), 26 DB7 (hiz), 27 DB6 (hiz), 28 DB5 (hiz), 29 DB4 (hiz), 30 DB3 (hiz), 31 DB2 (hiz), 32 DB1 (hiz), 33 DB0 (hiz), 36 BUSY (out) "Status output. High when a conversion is in progress.", 38 ~{RESET} (in) "Current conversion is aborted and output latches are cleared (set to zeros) when this pin is asserted low. R\E\S\E\T\ works independantly of C\S\.", 39 BYTE (in) "Byte select input. Used for 8-bit bus reading. 0: No fold back 1: Low byte D[7:0] of the 16 most significant bits is folded back to high byte of the 16 most significant pins DB[15:8].", 40 ~{CONVST} (in) "Convert start. The falling edge of this input ends the acquisition period and starts the hold period.", 41 ~{RD} (in) "Synchronization pulse for the parallel output. When C\S\ is low, this serves as the output enable and puts the previous conversion result on the bus.", 42 ~{CS} (in) "Chip select. The falling edge of this input starts the acquisition period.", 47 REFM (power) "Reference ground.", 48 REFM (power) "Reference ground."
part B pins: 4 VA+ (power) "Analog power supplies, 5-V dc", 5 AGND (power) "Analog ground", 8 AGND (power) "Analog ground", 9 VA+ (power) "Analog power supplies, 5-V dc", 10 VA+ (power) "Analog power supplies, 5-V dc", 11 AGND (power) "Analog ground", 12 AGND (power) "Analog ground", 13 VA+ (power) "Analog power supplies, 5-V dc", 14 AGND (power) "Analog ground", 15 AGND (power) "Analog ground", 24 VBD+ (power) "Digital power supply for bus", 25 BDGND (power) "Digital ground for bus interface digital supply", 34 VBD+ (power) "Digital power supply for bus", 35 BDGND (power) "Digital ground for bus interface digital supply", 37 VBD+ (power) "Digital power supply for bus", 43 VA+ (power) "Analog power supplies, 5-V dc", 44 AGND (power) "Analog ground", 45 AGND (power) "Analog ground", 46 VA+ (power) "Analog power supplies, 5-V dc"

## ADS8406IBPFBT
designator U?
16-Bit 1.25 MSPS, Pseudo Bipolar, Fully Differential Input Micro Power Sampling ADC, -40 to 85 degC, 48-pin QFP (PFB48), Green (RoHS & no Sb/Br); Manufacturer: Texas Instruments; PartNumber: ADS8406IBPFBT; # Input Channels: 1; Analog Voltage AV/DD(Max)(V): 5.25; Analog Voltage AV/DD(Min)(V): 4.75; Architecture: SAR; Digital Supply(Min)(V): 2.7; INL(Max)(+/-LSB): 2; Interface: Parallel CMOS; Resolution(Bits): 16; Sample Rate (max)(SPS): 1.25M; SFDR(dB): 95; SINAD(dB): 88; SNR(dB): 90; SubFamily: Precision ADC (<=10MSPS); DatasheetVersion: SLAS426A; PackageVersion: 4073176/B, 10/1996; PackageReference: PFB48; PackageDescription: 48-Pin Plastic Flat Pack, Body 7 x 7 mm, Pitch 0.5 mm; Supplier 1: Digi-Key; Supplier Part Number 1: ADS7816E/250G4-ND; Digital Supply(Max)(V): 5.25; Eco-Plan: Green (RoHS & no Sb/Br); Mounting Technology: Surface Mount; Code_JEDEC: MS-026; ComponentLink1Description: Manufacturer URL; ComponentLink1URL: http://www.ti.com/; ComponentLink2Description: Datasheet; ComponentLink2URL: http://www.ti.com/general/docs/lit/getliterature.tsp?genericPartNumber=ADS8406&fileType=pdf; ComponentLink3Description: Package Specification; ComponentLink3URL: http://www.ti.com/lit/ml/mtqf019a/mtqf019a.pdf
footprint TI-PFB48_N (QFP, 48-Leads, Body 7x7mm, Pitch 0.5mm, IPC Medium Density)
footprint TI-PFB48_L (QFP, 48-Leads, Body 7x7mm, Pitch 0.5mm, IPC High Density)
footprint TI-PFB48_M (QFP, 48-Leads, Body 7x7mm, Pitch 0.5mm, IPC Low Density)
part A pins: 1 REFIN (in) "Reference input.", 2 REFOUT (out) "Reference output. Add 1 uF capacitor between the REFOUT pin and REFM pin when internal reference is used.", 3 NC "No connection", 6 IN+ (in) "Noninverting input channel", 7 IN- (in) "Inverting input channel", 16 DB15 (hiz), 17 DB14 (hiz), 18 DB13 (hiz), 19 DB12 (hiz), 20 DB11 (hiz), 21 DB10 (hiz), 22 DB9 (hiz), 23 DB8 (hiz), 26 DB7 (hiz), 27 DB6 (hiz), 28 DB5 (hiz), 29 DB4 (hiz), 30 DB3 (hiz), 31 DB2 (hiz), 32 DB1 (hiz), 33 DB0 (hiz), 36 BUSY (out) "Status output. High when a conversion is in progress.", 38 ~{RESET} (in) "Current conversion is aborted and output latches are cleared (set to zeros) when this pin is asserted low. R\E\S\E\T\ works independantly of C\S\.", 39 BYTE (in) "Byte select input. Used for 8-bit bus reading. 0: No fold back 1: Low byte D[7:0] of the 16 most significant bits is folded back to high byte of the 16 most significant pins DB[15:8].", 40 ~{CONVST} (in) "Convert start. The falling edge of this input ends the acquisition period and starts the hold period.", 41 ~{RD} (in) "Synchronization pulse for the parallel output. When C\S\ is low, this serves as the output enable and puts the previous conversion result on the bus.", 42 ~{CS} (in) "Chip select. The falling edge of this input starts the acquisition period.", 47 REFM (power) "Reference ground.", 48 REFM (power) "Reference ground."
part B pins: 4 VA+ (power) "Analog power supplies, 5-V dc", 5 AGND (power) "Analog ground", 8 AGND (power) "Analog ground", 9 VA+ (power) "Analog power supplies, 5-V dc", 10 VA+ (power) "Analog power supplies, 5-V dc", 11 AGND (power) "Analog ground", 12 AGND (power) "Analog ground", 13 VA+ (power) "Analog power supplies, 5-V dc", 14 AGND (power) "Analog ground", 15 AGND (power) "Analog ground", 24 VBD+ (power) "Digital power supply for bus", 25 BDGND (power) "Digital ground for bus interface digital supply", 34 VBD+ (power) "Digital power supply for bus", 35 BDGND (power) "Digital ground for bus interface digital supply", 37 VBD+ (power) "Digital power supply for bus", 43 VA+ (power) "Analog power supplies, 5-V dc", 44 AGND (power) "Analog ground", 45 AGND (power) "Analog ground", 46 VA+ (power) "Analog power supplies, 5-V dc"

## ADS8406IBPFBTG4
designator U?
16-Bit 1.25 MSPS, Pseudo Bipolar, Fully Differential Input Micro Power Sampling ADC, -40 to 85 degC, 48-pin QFP (PFB48), Green (RoHS & no Sb/Br); Manufacturer: Texas Instruments; PartNumber: ADS8406IBPFBTG4; # Input Channels: 1; Analog Voltage AV/DD(Max)(V): 5.25; Analog Voltage AV/DD(Min)(V): 4.75; Architecture: SAR; Digital Supply(Min)(V): 2.7; INL(Max)(+/-LSB): 2; Interface: Parallel CMOS; Resolution(Bits): 16; Sample Rate (max)(SPS): 1.25M; SFDR(dB): 95; SINAD(dB): 88; SNR(dB): 90; SubFamily: Precision ADC (<=10MSPS); DatasheetVersion: SLAS426A; PackageVersion: 4073176/B, 10/1996; PackageReference: PFB48; PackageDescription: 48-Pin Plastic Flat Pack, Body 7 x 7 mm, Pitch 0.5 mm; Supplier 1: Digi-Key; Supplier Part Number 1: ADS7816E/2K5-ND; Digital Supply(Max)(V): 5.25; Eco-Plan: Green (RoHS & no Sb/Br); Mounting Technology: Surface Mount; Code_JEDEC: MS-026; ComponentLink1Description: Manufacturer URL; ComponentLink1URL: http://www.ti.com/; ComponentLink2Description: Datasheet; ComponentLink2URL: http://www.ti.com/general/docs/lit/getliterature.tsp?genericPartNumber=ADS8406&fileType=pdf; ComponentLink3Description: Package Specification; ComponentLink3URL: http://www.ti.com/lit/ml/mtqf019a/mtqf019a.pdf
footprint TI-PFB48_N (QFP, 48-Leads, Body 7x7mm, Pitch 0.5mm, IPC Medium Density)
footprint TI-PFB48_L (QFP, 48-Leads, Body 7x7mm, Pitch 0.5mm, IPC High Density)
footprint TI-PFB48_M (QFP, 48-Leads, Body 7x7mm, Pitch 0.5mm, IPC Low Density)
part A pins: 1 REFIN (in) "Reference input.", 2 REFOUT (out) "Reference output. Add 1 uF capacitor between the REFOUT pin and REFM pin when internal reference is used.", 3 NC "No connection", 6 IN+ (in) "Noninverting input channel", 7 IN- (in) "Inverting input channel", 16 DB15 (hiz), 17 DB14 (hiz), 18 DB13 (hiz), 19 DB12 (hiz), 20 DB11 (hiz), 21 DB10 (hiz), 22 DB9 (hiz), 23 DB8 (hiz), 26 DB7 (hiz), 27 DB6 (hiz), 28 DB5 (hiz), 29 DB4 (hiz), 30 DB3 (hiz), 31 DB2 (hiz), 32 DB1 (hiz), 33 DB0 (hiz), 36 BUSY (out) "Status output. High when a conversion is in progress.", 38 ~{RESET} (in) "Current conversion is aborted and output latches are cleared (set to zeros) when this pin is asserted low. R\E\S\E\T\ works independantly of C\S\.", 39 BYTE (in) "Byte select input. Used for 8-bit bus reading. 0: No fold back 1: Low byte D[7:0] of the 16 most significant bits is folded back to high byte of the 16 most significant pins DB[15:8].", 40 ~{CONVST} (in) "Convert start. The falling edge of this input ends the acquisition period and starts the hold period.", 41 ~{RD} (in) "Synchronization pulse for the parallel output. When C\S\ is low, this serves as the output enable and puts the previous conversion result on the bus.", 42 ~{CS} (in) "Chip select. The falling edge of this input starts the acquisition period.", 47 REFM (power) "Reference ground.", 48 REFM (power) "Reference ground."
part B pins: 4 VA+ (power) "Analog power supplies, 5-V dc", 5 AGND (power) "Analog ground", 8 AGND (power) "Analog ground", 9 VA+ (power) "Analog power supplies, 5-V dc", 10 VA+ (power) "Analog power supplies, 5-V dc", 11 AGND (power) "Analog ground", 12 AGND (power) "Analog ground", 13 VA+ (power) "Analog power supplies, 5-V dc", 14 AGND (power) "Analog ground", 15 AGND (power) "Analog ground", 24 VBD+ (power) "Digital power supply for bus", 25 BDGND (power) "Digital ground for bus interface digital supply", 34 VBD+ (power) "Digital power supply for bus", 35 BDGND (power) "Digital ground for bus interface digital supply", 37 VBD+ (power) "Digital power supply for bus", 43 VA+ (power) "Analog power supplies, 5-V dc", 44 AGND (power) "Analog ground", 45 AGND (power) "Analog ground", 46 VA+ (power) "Analog power supplies, 5-V dc"

## ADS8406IPFBT
designator U?
16-Bit 1.25 MSPS, Pseudo Bipolar, Fully Differential Input Micro Power Sampling ADC, -40 to 85 degC, 48-pin QFP (PFB48), Green (RoHS & no Sb/Br); Manufacturer: Texas Instruments; PartNumber: ADS8406IPFBT; # Input Channels: 1; Analog Voltage AV/DD(Max)(V): 5.25; Analog Voltage AV/DD(Min)(V): 4.75; Architecture: SAR; Digital Supply(Min)(V): 2.7; INL(Max)(+/-LSB): 4; Interface: Parallel CMOS; Resolution(Bits): 16; Sample Rate (max)(SPS): 1.25M; SFDR(dB): 95; SINAD(dB): 88; SNR(dB): 90; SubFamily: Precision ADC (<=10MSPS); DatasheetVersion: SLAS426A; PackageVersion: 4073176/B, 10/1996; PackageReference: PFB48; PackageDescription: 48-Pin Plastic Flat Pack, Body 7 x 7 mm, Pitch 0.5 mm; Supplier 1: Digi-Key; Supplier Part Number 1: ADS7816E/2K5G4-ND; Digital Supply(Max)(V): 5.25; Eco-Plan: Green (RoHS & no Sb/Br); Mounting Technology: Surface Mount; Code_JEDEC: MS-026; ComponentLink1Description: Manufacturer URL; ComponentLink1URL: http://www.ti.com/; ComponentLink2Description: Datasheet; ComponentLink2URL: http://www.ti.com/general/docs/lit/getliterature.tsp?genericPartNumber=ADS8406&fileType=pdf; ComponentLink3Description: Package Specification; ComponentLink3URL: http://www.ti.com/lit/ml/mtqf019a/mtqf019a.pdf
footprint TI-PFB48_N (QFP, 48-Leads, Body 7x7mm, Pitch 0.5mm, IPC Medium Density)
footprint TI-PFB48_L (QFP, 48-Leads, Body 7x7mm, Pitch 0.5mm, IPC High Density)
footprint TI-PFB48_M (QFP, 48-Leads, Body 7x7mm, Pitch 0.5mm, IPC Low Density)
part A pins: 1 REFIN (in) "Reference input.", 2 REFOUT (out) "Reference output. Add 1 uF capacitor between the REFOUT pin and REFM pin when internal reference is used.", 3 NC "No connection", 6 IN+ (in) "Noninverting input channel", 7 IN- (in) "Inverting input channel", 16 DB15 (hiz), 17 DB14 (hiz), 18 DB13 (hiz), 19 DB12 (hiz), 20 DB11 (hiz), 21 DB10 (hiz), 22 DB9 (hiz), 23 DB8 (hiz), 26 DB7 (hiz), 27 DB6 (hiz), 28 DB5 (hiz), 29 DB4 (hiz), 30 DB3 (hiz), 31 DB2 (hiz), 32 DB1 (hiz), 33 DB0 (hiz), 36 BUSY (out) "Status output. High when a conversion is in progress.", 38 ~{RESET} (in) "Current conversion is aborted and output latches are cleared (set to zeros) when this pin is asserted low. R\E\S\E\T\ works independantly of C\S\.", 39 BYTE (in) "Byte select input. Used for 8-bit bus reading. 0: No fold back 1: Low byte D[7:0] of the 16 most significant bits is folded back to high byte of the 16 most significant pins DB[15:8].", 40 ~{CONVST} (in) "Convert start. The falling edge of this input ends the acquisition period and starts the hold period.", 41 ~{RD} (in) "Synchronization pulse for the parallel output. When C\S\ is low, this serves as the output enable and puts the previous conversion result on the bus.", 42 ~{CS} (in) "Chip select. The falling edge of this input starts the acquisition period.", 47 REFM (power) "Reference ground.", 48 REFM (power) "Reference ground."
part B pins: 4 VA+ (power) "Analog power supplies, 5-V dc", 5 AGND (power) "Analog ground", 8 AGND (power) "Analog ground", 9 VA+ (power) "Analog power supplies, 5-V dc", 10 VA+ (power) "Analog power supplies, 5-V dc", 11 AGND (power) "Analog ground", 12 AGND (power) "Analog ground", 13 VA+ (power) "Analog power supplies, 5-V dc", 14 AGND (power) "Analog ground", 15 AGND (power) "Analog ground", 24 VBD+ (power) "Digital power supply for bus", 25 BDGND (power) "Digital ground for bus interface digital supply", 34 VBD+ (power) "Digital power supply for bus", 35 BDGND (power) "Digital ground for bus interface digital supply", 37 VBD+ (power) "Digital power supply for bus", 43 VA+ (power) "Analog power supplies, 5-V dc", 44 AGND (power) "Analog ground", 45 AGND (power) "Analog ground", 46 VA+ (power) "Analog power supplies, 5-V dc"